# Altium footprint library K78xx-1000R3.PcbLib: 1 footprints
Each footprint in its own frame and in the unit in brackets; x right, y up, seen from the top. Pads: shape width x height; smd on the part's side, far side on the other; paste and mask are expansions set on the pad; w line width, h text height; cw(c..) or ccw(c..) is an arc to the next point about the centre after c.
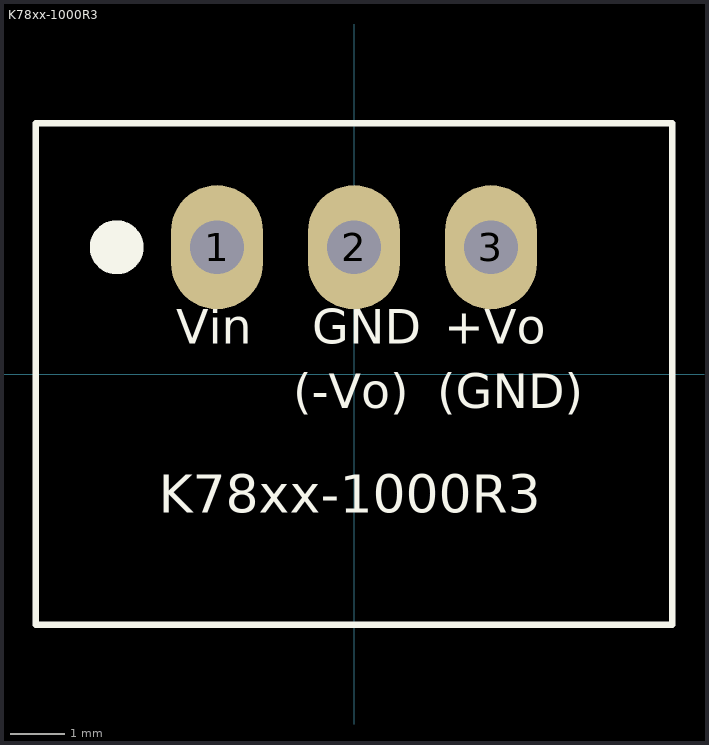
[diagram p0: the footprint, top view; thin cyan lines are the x and y axes]

## K78xx-1000R3 [mm]
height 6
pads (3):
  oval 1.7x2.3 hole 1: 1(-2.54,2.35) 2(0,2.35) 3(2.54,2.35)
Top Overlay:
  circle w0.5: c-4.4,2.35 r0.25
  lines w0.127: -5.9,-4.65 -5.9,4.65 5.9,4.65 5.9,-4.65 -5.9,-4.65
  text "(-Vo)" at -1.122,-0.851 h1.1
  text "(GND)" at 1.545,-0.851 h1.1
  text "K78xx-1000R3" at -3.625,-2.8 h1.2
  text "+Vo" at 1.675,0.35 h1.1
  text "GND" at -0.775,0.35 h1.1
  text "Vin" at -3.3,0.35 h1.1